# Altium footprint library PHOENIX_PTS_5.0MM_2x1.PcbLib: 1 footprints
Each footprint in its own frame and in the unit in brackets; x right, y up, seen from the top. Pads: shape width x height; smd on the part's side, far side on the other; paste and mask are expansions set on the pad; w line width, h text height; cw(c..) or ccw(c..) is an arc to the next point about the centre after c.
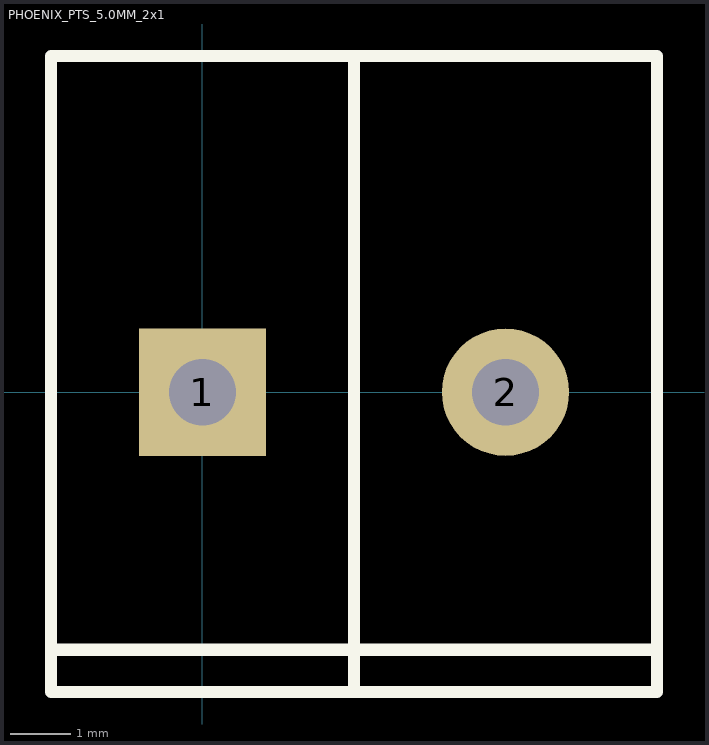
[diagram p0: the footprint, top view; thin cyan lines are the x and y axes]

## PHOENIX_PTS_5.0MM_2x1 [mm] "Phoenix Contact Screwless Terminal Block, (PTS 1,5/ 2-5,0-H - 1792863)"
height 13.6
pads (2):
  rect 2.1x2.1 hole 1.1: 1(0,0)
  round 2.1 hole 1.1: 2(5,0)
Top Overlay:
  lines w0.2: -2.5,-4.25 7.5,-4.25 ; 2.5,-4.95 2.5,5.55 ; -2.5,-4.95 -2.5,5.55 7.5,5.55 7.5,-4.95 -2.5,-4.95
3D body "PHOENIX_PTS_5-00mm_2x1.stp": height 13.63, standoff -2.48, extent -2.5,-4.95 7.5,5.55